# Altium integrated library Integrated_Library.IntLib: 5 symbols
Pins are listed as number, name and electrical type; pins without a type are passive.

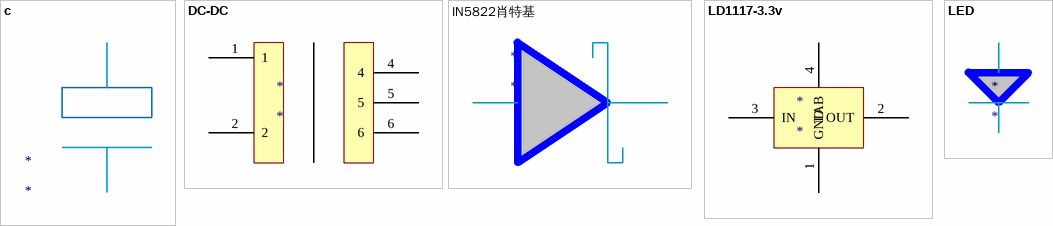
[diagram p0: symbols c to LED]

## c
designator *

## DC-DC
designator *
pins: 1, 2, 4, 5, 6

## IN5822肖特基
designator *

## LD1117-3.3v
designator *
pins: 1 GND, 2 OUT, 3 IN, 4 TAB

## LED
designator *